# EAGLE library part 640456-6 (library 640456-6)
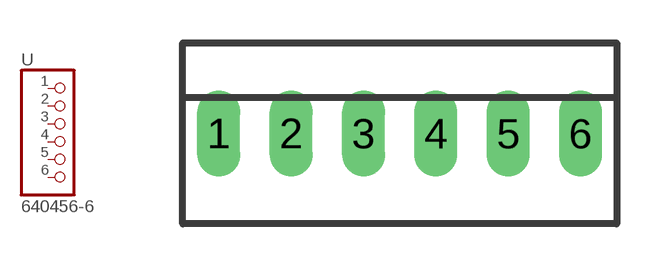
[diagram p0: symbol with the pads of 640456-6; footprint 640456-6]

Designator prefix -

## 640456-6  [640456-6]
1  1  pas
2  2  pas
3  3  pas
4  4  pas
5  5  pas
6  6  pas

## Footprint 640456-6 (pad centres in mm)
.100" (2.54mm) Center Header - 5 Pin
drill 1 long: 1 -5.08,0; 2 -2.54,0; 3 0,0; 4 2.54,0; 5 5.08,0; 6 7.62,0